# Altium footprint library Relay.PcbLib: 4 footprints
Each footprint in its own frame and in the unit in brackets; x right, y up, seen from the top. Pads: shape width x height; smd on the part's side, far side on the other; paste and mask are expansions set on the pad; w line width, h text height; cw(c..) or ccw(c..) is an arc to the next point about the centre after c.
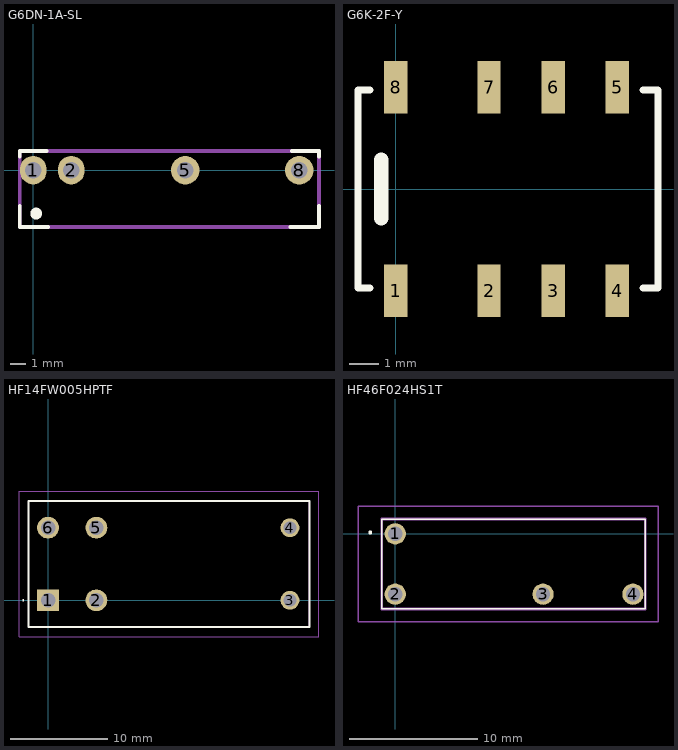
[diagram p0: the footprints below, top view; thin cyan lines are the x and y axes]

## G6DN-1A-SL [mm]
pads (4):
  oval 1.778x1.905 hole 1.1: 1(0,0) 2(2.54,0)
  round 1.905 hole 1.1: 5(10.16,0) 8(17.78,0)
Top Overlay:
  circle w0.381: c0.2,-2.9 r0.2
  lines w0.254: -0.9,-2.4 -0.9,-3.8 1,-3.8 ; -0.9,0.9 -0.9,1.281 0.9,1.281 ; 17.2,-3.8 19.1,-3.8 19.1,-2.4 ; 17.3,1.281 19.1,1.281 19.1,0.9
Mechanical 13:
  lines w0.254: -0.9,-3.8 19.1,-3.8 19.1,0 19.1,1.28 -0.9,1.28 -0.9,0 -0.9,-3.8
3D body "G6DN_1A_L.step": height 12.5, standoff -3.3, extent -0.856,-3.81 19.144,1.27

## G6K-2F-Y [mm]
pads (8):
  rect 0.8x1.8 smd: 1(0,-3.5) 2(3.2,-3.5) 3(5.4,-3.5) 4(7.6,-3.5) 5(7.6,3.5) 6(5.4,3.5) 7(3.2,3.5) 8(0,3.5)
Top Overlay:
  lines w0.254: -0.9,-3.4 -1.3,-3.4 -1.3,3.4 -0.9,3.4 ; 8.5,-3.4 9,-3.4 9,3.4 8.5,3.4
  lines w0.508: -0.5,-1 -0.5,1
3D body "User Library-G6K-2F-Y.STEP": height 5.3, standoff 0, extent -1.2,-4.1 8.8,3.7

## HF14FW005HPTF [mm]
pads (6):
  rect 2.25x2.25 hole 1.5: 1(0,0)
  round 2.25 hole 1.5: 2(5,0) 5(5,7.5) 6(0,7.5)
  round 1.95 hole 1.3: 3(25,0) 4(25,7.5)
Top Overlay:
  lines w0.1: -2.6,0 ccw(c-2.55,0) -2.5,0 ccw(c-2.55,0) -2.6,0
  lines w0.2: -2,-2.75 -2,10.25 27,10.25 27,-2.75 -2,-2.75
Mechanical 13:
  lines w0.1: -2,-2.75 -2,10.25 27,10.25 27,-2.75 -2,-2.75
Mechanical 15:
  lines w0.1: -3,-3.75 -3,11.25 28,11.25 28,-3.75 -3,-3.75
3D body "HF14FW_005-HPTF.stp": height 26.6, standoff -5, extent -2,-2.75 27,10.25

## HF46F024HS1T [mm]
pads (4):
  round 1.65 hole 1.1: 1(0,0) 2(0,-4.7) 3(11.5,-4.7) 4(18.5,-4.7)
Top Overlay:
  lines w0.1: -1.05,-5.85 -1.05,1.15 19.45,1.15 19.45,-5.85 -1.05,-5.85
  lines w0.2: -2,0.1 cw(c-1.95,0.1) -1.9,0.1 ; -2,0.1 ccw(c-1.95,0.1) -1.9,0.1 ; -2,0.1 cw(c-1.95,0.1) -1.9,0.1
Mechanical 13:
  lines w0.2: -1.05,-5.85 -1.05,1.15 19.45,1.15 19.45,-5.85 -1.05,-5.85
Mechanical 15:
  lines w0.1: -2.9,-6.85 -2.9,2.15 20.45,2.15 20.45,-6.85 -2.9,-6.85
3D body "HF46F_024-HS1T.stp": height 15.7, standoff -5, extent -1.05,-5.85 19.45,1.15